# Altium schematic symbol library 09221326922.SchLib: 1 symbol
Pins are listed as number, name and electrical type; pins without a type are passive.

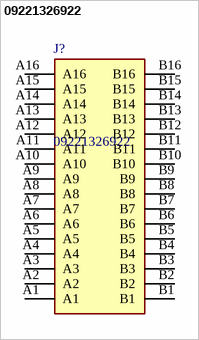
[diagram p0: symbol 09221326922]

## 09221326922
designator J?
DIN 2B male straight 32pin, PL2; Manufacturer_Name: HARTING; Geometry.Height: 10.2mm; Mouser Part Number: 617-09221326922; Mouser Price/Stock: https://www.mouser.co.uk/ProductDetail/HARTING/09221326922?qs=Afqhj6cPmO%252B%2FNhXYLDucCw%3D%3D; Manufacturer_Part_Number: 09221326922; Datasheet Link: https://b2b.harting.com/files/download/PRD/PDF_DS/PDF_DS_09031200201.pdf
footprint 09221326922
pins: A1, A2, A3, A4, A5, A6, A7, A8, A9, A10, A11, A12, A13, A14, A15, A16, B1, B2, B3, B4, B5, B6, B7, B8, B9, B10, B11, B12, B13, B14, B15, B16